# Altium schematic symbol library DRA124-1R0-R.SchLib: 2 symbols
Pins are listed as number, name and electrical type; pins without a type are passive.

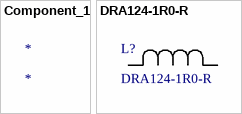
[diagram p0: symbols Component_1 to DRA124-1R0-R]

## Component_1
designator *

## DRA124-1R0-R
designator L?
No Description Available; Mfr_Name: Eaton; Type: DEV; Copyright: Copyright (C) 2023 Ultra Librarian. All rights reserved.; Manufacturer_Part_Number: DRA124-1R0-R; RefDes: RefDes
footprint IND_CB_DRA124
pins: 1, 2